# EAGLE library part U642B (library atmega-atxmega)
As a convenience feature of the windshield wiper, intermittent and wipe/wash operation fuctions are implemented in most of the automobiles. The U642B is a cost-effective solution for an accurate timing function control. Wipe/wash mode has priority over interval mode. Interval pause and after-wiping time can be set to fixed values by using resistors in a broad time range. Added value can be provided with an individual, continuous adjustment of the interval pause by a potentiometer which may be built into the stalk. For proper operation, it is mandatory to feed the signal of the wiper motor's park switch into U642B.
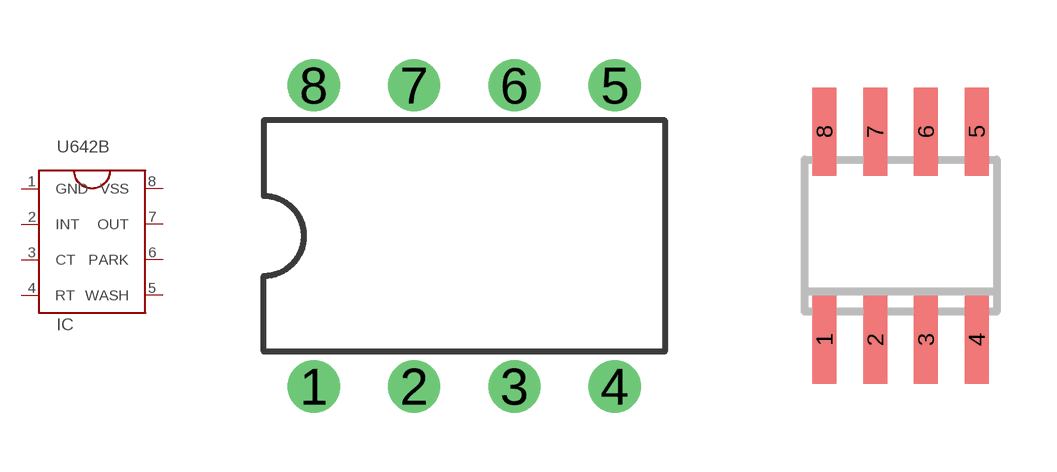
[diagram p155: symbol with the pads of DIL08; footprints DIL08, SO08]

Designator prefix IC

## U642BDIL08  [DIL08]
1  GND  pwr
2  INT
3  CT
4  RT
5  WASH
6  PARK
7  OUT  out
8  VSS  pwr

## U642BSO08  [SO08]
Pads as for DIL08

## Footprint DIL08 (pad centres in mm)
Dual In Line Package
drill 0.813 pad 1.27: 1 -3.81,-3.81; 2 -1.27,-3.81; 3 1.27,-3.81; 4 3.81,-3.81; 5 3.81,3.81; 6 1.27,3.81; 7 -1.27,3.81; 8 -3.81,3.81

## Footprint SO08 (pad centres in mm)
SMALL OUTLINE INTEGRATED CIRCUIT body 3.9 mm/JEDEC MS-012AA
smd 0.6 x 2.2: 1 -1.905,-2.6; 2 -0.635,-2.6; 3 0.635,-2.6; 4 1.905,-2.6; 5 1.905,2.6; 6 0.635,2.6; 7 -0.635,2.6; 8 -1.905,2.6